# Altium schematic symbol library Diodes.SchLib: 42 symbols (part 2 of 2)
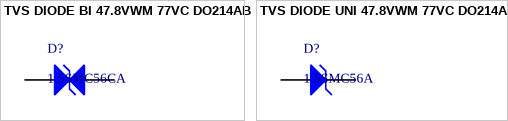
[diagram p2: symbols TVS DIODE BI 47.8VWM 77VC DO214AB to TVS DIODE UNI 47.8VWM 77VC DO214AB]

## TVS DIODE BI 47.8VWM 77VC DO214AB
designator D?, comment 1.5SMC56CA
TVS DIODE 47.8VWM 77VC DO214AB; Manufacturer: Vishay Semiconductor Diodes Division; Manufacturer Part Number: 1.5SMC56CA-E3/57T; Type: Zener; Bidirectional Channels: 1; Voltage - Reverse Standoff (Typ): 47.8V; Voltage - Breakdown (Min): 53.2V; Voltage - Clamping (Max) @ Ipp: 77V; Current - Peak Pulse (10/1000µs): 19.5A; Power - Peak Pulse: 1500W (1.5kW); Power Line Protection: No; Supplier 1: Digi-Key; RoHS: RoHS Compliant; Category: Circuit Protection; Stock 1: 148; Pricing 1: 1=0.62, 10=0.544, 25=0.5108, 100=0.4169, 250=0.38728 (USD); Packaging: Cut Tape (CT); Part Status: Active; Unidirectional Channels: -; Applications: General Purpose; Capacitance @ Frequency: -; Operating Temperature: -65°C ~ 150°C (TJ); Mounting Type: Surface Mount; Package / Case: DO-214AB, SMC; Supplier Device Package: DO-214AB (SMCJ); ComponentLink1URL: http://www.vishay.com/docs/88303/15smcseries.pdf; ComponentLink1Description: http://www.vishay.com/docs/88303/15smcseries.pdf; Supplier Part Number 1: 1.5SMC56CA-E3/57TGICT-ND
footprint DO214-AB BIDIR (SMC)
pins: 1 A, 2 K

## TVS DIODE UNI 47.8VWM 77VC DO214AB
designator D?, comment 1.5SMC56A
TVS DIODE 47.8VWM 77VC DO214AB; Manufacturer: Vishay Semiconductor Diodes Division; Manufacturer Part Number: 1.5SMC56A-E3/57T; Type: Zener; Unidirectional Channels: 1; Voltage - Reverse Standoff (Typ): 47.8V; Voltage - Breakdown (Min): 53.2V; Voltage - Clamping (Max) @ Ipp: 77V; Current - Peak Pulse (10/1000µs): 19.5A; Power - Peak Pulse: 1500W (1.5kW); Power Line Protection: No; Supplier 1: Digi-Key; RoHS: RoHS Compliant; Category: Circuit Protection; Stock 1: 845; Pricing 1: 1=0.56, 10=0.483, 25=0.4508, 100=0.3605, 250=0.33476 (USD); Packaging: Cut Tape (CT); Part Status: Active; Bidirectional Channels: -; Applications: General Purpose; Capacitance @ Frequency: -; Operating Temperature: -65°C ~ 150°C (TJ); Mounting Type: Surface Mount; Package / Case: DO-214AB, SMC; Supplier Device Package: DO-214AB (SMCJ); ComponentLink1URL: http://www.vishay.com/docs/88303/15smcseries.pdf; ComponentLink1Description: http://www.vishay.com/docs/88303/15smcseries.pdf; Supplier Part Number 1: 1.5SMC56A-E3/57TGICT-ND
footprint DO214-AB (SMC)
pins: 1 A, 2 K